# Altium footprint library iguide_custom.PcbLib: 2 footprints
Each footprint in its own frame and in the unit in brackets; x right, y up, seen from the top. Pads: shape width x height; smd on the part's side, far side on the other; paste and mask are expansions set on the pad; w line width, h text height; cw(c..) or ccw(c..) is an arc to the next point about the centre after c.
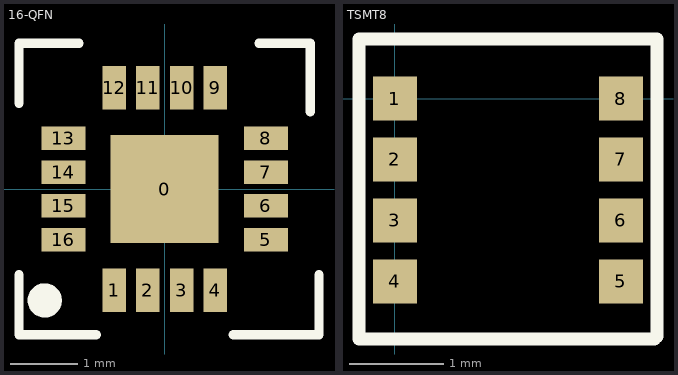
[diagram p0: the footprints below, top view; thin cyan lines are the x and y axes]

## 16-QFN [mm] "IC-TS300xx"
pads (17):
  rect 1.6x1.6 smd: 0(0,0)
  rect 0.35x0.65 smd: 1(-0.75,-1.5) 2(-0.25,-1.5) 3(0.25,-1.5) 4(0.75,-1.5) 9(0.75,1.5) 10(0.25,1.5) 11(-0.25,1.5) 12(-0.75,1.5)
  rect 0.65x0.35 smd: 5(1.5,-0.75) 6(1.5,-0.25) 7(1.5,0.25) 8(1.5,0.75) 13(-1.5,0.75) 14(-1.5,0.25) 15(-1.5,-0.25) 16(-1.5,-0.75)
Top Overlay:
  circle w0.254: c-1.778,-1.651 r0.127
  lines w0.14: -2.159,-1.27 -2.159,-2.159 -1.016,-2.159 ; -2.159,1.27 -2.159,2.159 -1.27,2.159 ; 1.016,-2.159 2.286,-2.159 2.286,-1.27 ; 1.397,2.159 2.159,2.159 2.159,1.143 ; -1.778,-1.651 -1.651,-1.651 -1.778,-1.651

## TSMT8 [mm]
pads (8):
  rect 0.47x0.47 smd: 1(0,0) 2(0,-0.65) 3(0,-1.3) 4(0,-1.95) 5(2.41,-1.95) 6(2.41,-1.3) 7(2.41,-0.65) 8(2.41,0)
Top Overlay:
  lines w0.14: -0.381,-2.565 -0.381,0.635 2.794,0.635 2.794,-2.54 2.769,-2.565 -0.381,-2.565